# EAGLE library part LSM303C (library bluepill)
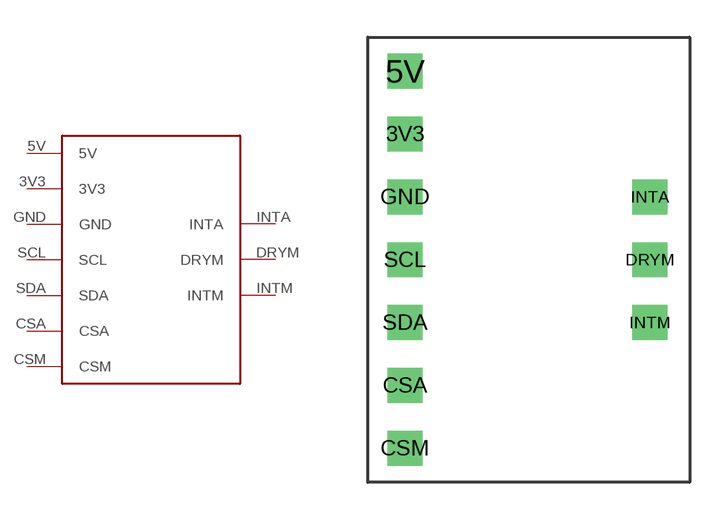
[diagram p6: symbol with the pads of LSM303C; footprint LSM303C]

Designator prefix -

## LSM303C  [LSM303C]
3V3  3V3
5V  5V
CSA  CSA
CSM  CSM
DRYM  DRYM
GND  GND
INTA  INTA
INTM  INTM
SCL  SCL
SDA  SDA

## Footprint LSM303C (pad centres in mm)
drill 0.9 square: 3V3 -5,5.08; 5V -5,7.62; CSA -5,-5.08; CSM -5,-7.62; DRYM 4.9,0; GND -5,2.54; INTA 4.9,2.54; INTM 4.9,-2.54; SCL -5,0; SDA -5,-2.54